# EAGLE library part 74AVC2T45 (library laforge)
NXP 74AVC2T45 DUAL-BIT, DUAL-SUPPLY VOLTAGE LEVEL TRANSLATOR/TRANSCEIVER; TRI-STATE
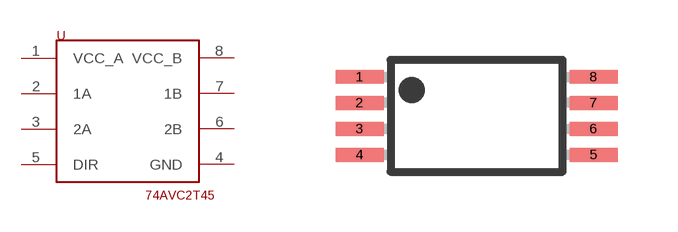
[diagram p10: symbol with the pads of TSSOP8; footprint TSSOP8]

Designator prefix -

## 74AVC2T45  [TSSOP8]
1  VCC_A
2  1A
3  2A
4  GND  pas
5  DIR  in
6  2B
7  1B
8  VCC_B  pwr

## Footprint TSSOP8 (pad centres in mm)
smd 1.2 x 0.35: 1 -2.925,0.975; 2 -2.925,0.325; 3 -2.925,-0.325; 4 -2.925,-0.975; 5 2.925,-0.975; 6 2.925,-0.325; 7 2.925,0.325; 8 2.925,0.975